# EAGLE library part AITHINKER_A7 (library dawidkulpa_dev)
GPS + GPRS module
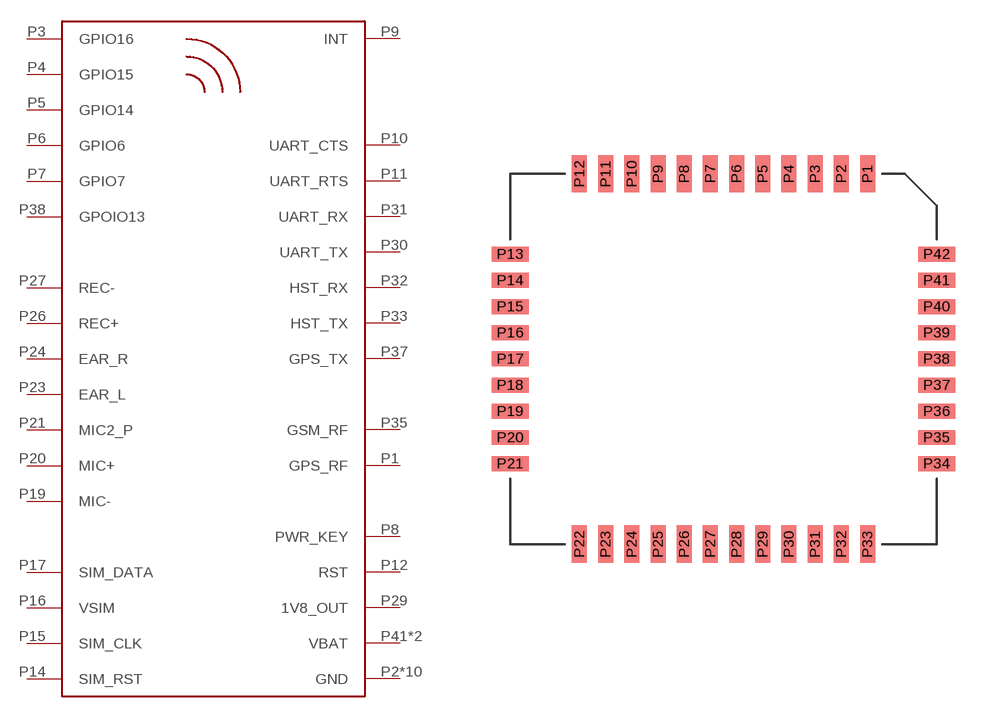
[diagram p5: symbol with the pads of AITHINKER; footprint AITHINKER]

Designator prefix -

## AITHINKER_A7  [AITHINKER]
P1  GPS_RF
P2  GND
P3  GPIO16
P4  GPIO15
P5  GPIO14
P6  GPIO6
P7  GPIO7
P8  PWR_KEY
P9  INT
P10  UART_CTS
P11  UART_RTS
P12  RST
P13  GND
P14  SIM_RST
P15  SIM_CLK
P16  VSIM
P17  SIM_DATA
P18  GND
P19  MIC-
P20  MIC+
P21  MIC2_P
P22  GND
P23  EAR_L
P24  EAR_R
P25  GND
P26  REC+
P27  REC-
P28  GND
P29  1V8_OUT
P30  UART_TX
P31  UART_RX
P32  HST_RX
P33  HST_TX
P34  GND
P35  GSM_RF
P36  GND
P37  GPS_TX
P38  GPOIO13
P39  GND
P40  GND
P41  VBAT
P42  VBAT

## Footprint AITHINKER (pad centres in mm)
smd 0.8 x 2: P1 7.7,9.9; P2 6.3,9.9; P3 4.9,9.9; P4 3.5,9.9; P5 2.1,9.9; P6 0.7,9.9; P7 -0.7,9.9; P8 -2.1,9.9; P9 -3.5,9.9; P10 -4.9,9.9; P11 -6.3,9.9; P12 -7.7,9.9; P22 -7.7,-9.9; P23 -6.3,-9.9; P24 -4.9,-9.9; P25 -3.5,-9.9; P26 -2.1,-9.9; P27 -0.7,-9.9; P28 0.7,-9.9; P29 2.1,-9.9; P30 3.5,-9.9; P31 4.9,-9.9; P32 6.3,-9.9; P33 7.7,-9.9
smd 2 x 0.8: P13 -11.4,5.6; P14 -11.4,4.2; P15 -11.4,2.8; P16 -11.4,1.4; P17 -11.4,0; P18 -11.4,-1.4; P19 -11.4,-2.8; P20 -11.4,-4.2; P21 -11.4,-5.6; P34 11.4,-5.6; P35 11.4,-4.2; P36 11.4,-2.8; P37 11.4,-1.4; P38 11.4,0; P39 11.4,1.4; P40 11.4,2.8; P41 11.4,4.2; P42 11.4,5.6